# Altium schematic symbol library SamacSys.SchLib: 51 symbols
Pins are listed as number, name and electrical type; pins without a type are passive.

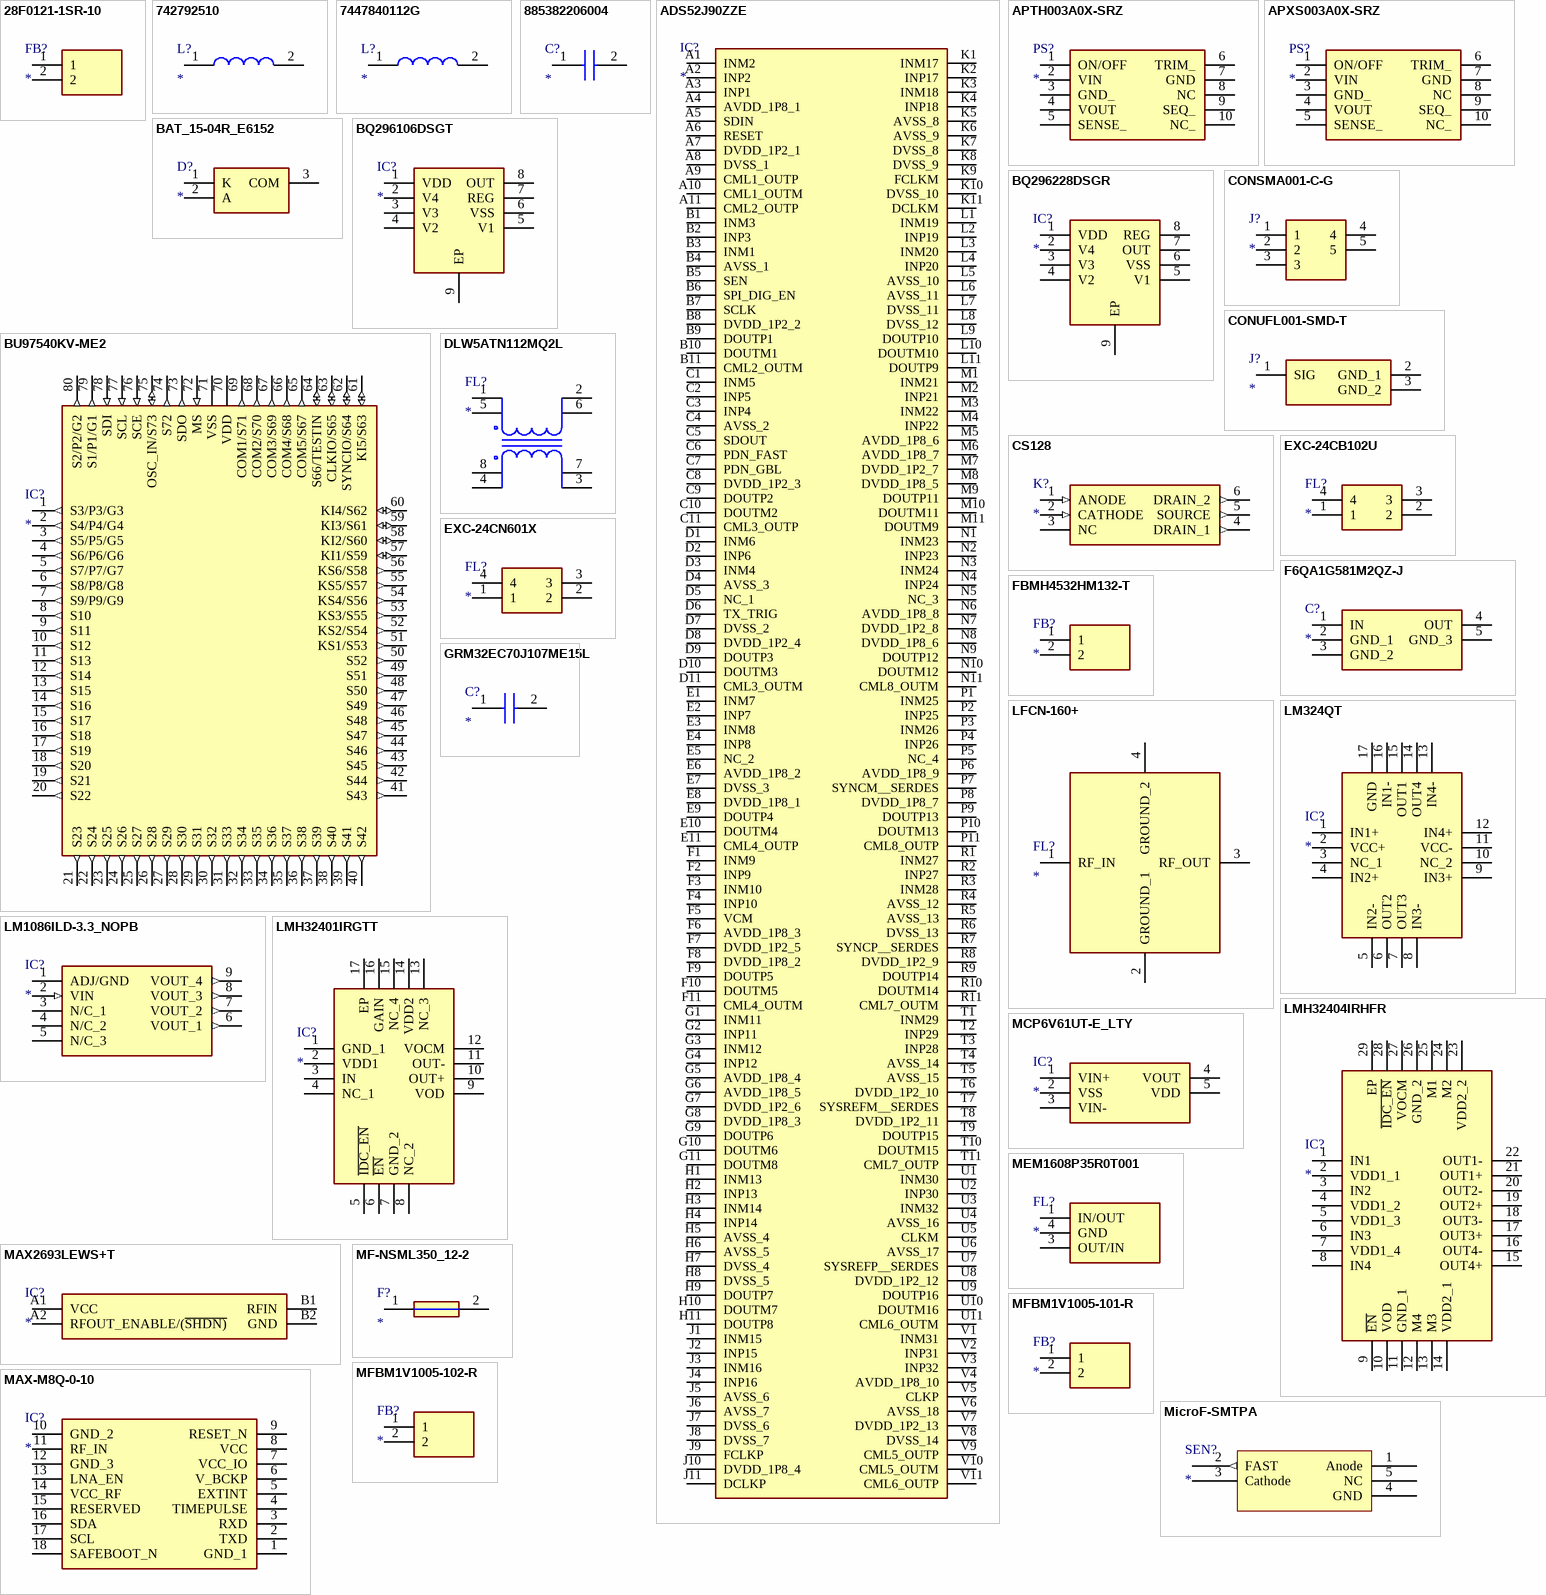
[diagram p0: symbols 28F0121-1SR-10 to MicroF-SMTPA]

## 28F0121-1SR-10
designator FB?
Ferrite Bead; Manufacturer_Name: Laird Performance Materials; Manufacturer_Part_Number: 28F0121-1SR-10; Datasheet Link: https://componentsearchengine.com//28F0121-1SR-10.pdf; Height: 3.05mm; Mouser2 Part Number: 875-28F0121-1SR-10; Mouser2 Price/Stock: https://www.mouser.com/Search/Refine.aspx?Keyword=875-28F0121-1SR-10
footprint 28F01211SR10
pins: 1, 2

## 742792510
designator L?
Inductor; Manufacturer_Name: Wurth Elektronik; Manufacturer_Part_Number: 742792510; Datasheet Link: https://componentsearchengine.com//742792510.pdf; Mouser2 Part Number: 710-742792510; Mouser2 Price/Stock: https://www.mouser.com/Search/Refine.aspx?Keyword=710-742792510
footprint 18122
pins: 1, 2

## 7447840112G
designator L?
Inductor; Manufacturer_Name: Wurth Elektronik; Manufacturer_Part_Number: 7447840112G; Datasheet Link: https://www.mouser.sg/datasheet/2/445/7447840112G-2492224.pdf; Height: 0.55mm
footprint INDC1005X55N
pins: 1, 2

## 885382206004
designator C?
Capacitor; Manufacturer_Name: Wurth Elektronik; Manufacturer_Part_Number: 885382206004; Datasheet Link: https://katalog.we-online.com/pbs/datasheet/885382206004.pdf; Height: 0.87mm
footprint CAPC1608X87N
pins: 1, 2

## ADS52J90ZZE
designator IC?
Integrated Circuit; Manufacturer_Name: Texas Instruments; Manufacturer_Part_Number: ADS52J90ZZE; Datasheet Link: http://www.ti.com/lit/gpn/ads52j90; Height: 1.4mm; Mouser2 Part Number: 595-ADS52J90ZZE; Mouser2 Price/Stock: https://www.mouser.com/Search/Refine.aspx?Keyword=595-ADS52J90ZZE
footprint BGA198C80P11X18_900X1500X140
pins: A1 INM2, A2 INP2, A3 INP1, A4 AVDD_1P8_1, A5 SDIN, A6 RESET, A7 DVDD_1P2_1, A8 DVSS_1, A9 CML1_OUTP, A10 CML1_OUTM, A11 CML2_OUTP, B1 INM3, B2 INP3, B3 INM1, B4 AVSS_1, B5 SEN, B6 SPI_DIG_EN, B7 SCLK, B8 DVDD_1P2_2, B9 DOUTP1, B10 DOUTM1, B11 CML2_OUTM, C1 INM5, C2 INP5, C3 INP4, C4 AVSS_2, C5 SDOUT, C6 PDN_FAST, C7 PDN_GBL, C8 DVDD_1P2_3, C9 DOUTP2, C10 DOUTM2, C11 CML3_OUTP, D1 INM6, D2 INP6, D3 INM4, D4 AVSS_3, D5 NC_1, D6 TX_TRIG, D7 DVSS_2, D8 DVDD_1P2_4, D9 DOUTP3, D10 DOUTM3, D11 CML3_OUTM, E1 INM7, E2 INP7, E3 INM8, E4 INP8, E5 NC_2, E6 AVDD_1P8_2, E7 DVSS_3, E8 DVDD_1P8_1, E9 DOUTP4, E10 DOUTM4, E11 CML4_OUTP, F1 INM9, F2 INP9, F3 INM10, F4 INP10, F5 VCM, F6 AVDD_1P8_3, F7 DVDD_1P2_5, F8 DVDD_1P8_2, F9 DOUTP5, F10 DOUTM5, F11 CML4_OUTM, G1 INM11, G2 INP11, G3 INM12, G4 INP12, G5 AVDD_1P8_4, G6 AVDD_1P8_5, G7 DVDD_1P2_6, G8 DVDD_1P8_3, G9 DOUTP6, G10 DOUTM6, G11 DOUTM8, H1 INM13, H2 INP13, H3 INM14, H4 INP14, H5 AVSS_4, H6 AVSS_5, H7 DVSS_4, H8 DVSS_5, H9 DOUTP7, H10 DOUTM7, H11 DOUTP8, J1 INM15, J2 INP15, J3 INM16, J4 INP16, J5 AVSS_6, J6 AVSS_7, J7 DVSS_6, J8 DVSS_7, J9 FCLKP, J10 DVDD_1P8_4, J11 DCLKP, K1 INM17, K2 INP17, K3 INM18, K4 INP18, K5 AVSS_8, K6 AVSS_9, K7 DVSS_8, K8 DVSS_9, K9 FCLKM, K10 DVSS_10, K11 DCLKM, L1 INM19, L2 INP19, L3 INM20, L4 INP20, L5 AVSS_10, L6 AVSS_11, L7 DVSS_11, L8 DVSS_12, L9 DOUTP10, L10 DOUTM10, L11 DOUTP9, M1 INM21, M2 INP21, M3 INM22, M4 INP22, M5 AVDD_1P8_6, M6 AVDD_1P8_7, M7 DVDD_1P2_7, M8 DVDD_1P8_5, M9 DOUTP11, M10 DOUTM11, M11 DOUTM9, N1 INM23, N2 INP23, N3 INM24, N4 INP24, N5 NC_3, N6 AVDD_1P8_8, N7 DVDD_1P2_8, N8 DVDD_1P8_6, N9 DOUTP12, N10 DOUTM12, N11 CML8_OUTM, P1 INM25, P2 INP25, P3 INM26, P4 INP26, P5 NC_4, P6 AVDD_1P8_9, P7 SYNCM__SERDES, P8 DVDD_1P8_7, P9 DOUTP13, P10 DOUTM13, P11 CML8_OUTP, R1 INM27, R2 INP27, R3 INM28, R4 AVSS_12, R5 AVSS_13, R6 DVSS_13, R7 SYNCP__SERDES, R8 DVDD_1P2_9, R9 DOUTP14, R10 DOUTM14, R11 CML7_OUTM, T1 INM29, T2 INP29, T3 INP28, T4 AVSS_14, T5 AVSS_15, T6 DVDD_1P2_10, T7 SYSREFM__SERDES, T8 DVDD_1P2_11, T9 DOUTP15, T10 DOUTM15, T11 CML7_OUTP, U1 INM30, U2 INP30, U3 INM32, U4 AVSS_16, U5 CLKM, U6 AVSS_17, U7 SYSREFP__SERDES, U8 DVDD_1P2_12, U9 DOUTP16, U10 DOUTM16, U11 CML6_OUTM, V1 INM31, V2 INP31, V3 INP32, V4 AVDD_1P8_10, V5 CLKP, V6 AVSS_18, V7 DVDD_1P2_13, V8 DVSS_14, V9 CML5_OUTP, V10 CML5_OUTM, V11 CML6_OUTP

## APTH003A0X-SRZ
designator PS?
Power Supply; Manufacturer_Name: ABB; Manufacturer_Part_Number: APTH003A0X-SRZ; Description: Non-Isolated DC/DC Converters SMT in 2.4-5.5Vdc out 0.59-3.63Vdc 3A; Datasheet Link: https://componentsearchengine.com/Datasheets/1/APTH003A0X-SRZ.pdf; Height: 6.4024mm
footprint APTH003A0XSRZ
pins: 1 ON/OFF, 2 VIN, 3 GND_, 4 VOUT, 5 SENSE_, 6 TRIM_, 7 GND, 8 NC, 9 SEQ_, 10 NC_

## APXS003A0X-SRZ
designator PS?
Power Supply; Manufacturer_Name: ABB; Manufacturer_Part_Number: APXS003A0X-SRZ; Description: Non-Isolated DC/DC Converters SMT in 4.5-14Vdc out 0.59-5.5Vdc 3A; Datasheet Link: https://www.mouser.sg/datasheet/2/167/APTS003A0X-1920083.pdf; Height: 6.25mm
footprint APTH003A0XSRZ
pins: 1 ON/OFF, 2 VIN, 3 GND_, 4 VOUT, 5 SENSE_, 6 TRIM_, 7 GND, 8 NC, 9 SEQ_, 10 NC_

## BAT_15-04R_E6152
designator D?
Diode; Manufacturer_Name: Infineon; Manufacturer_Part_Number: BAT 15-04R E6152; Datasheet Link: https://www.mouser.co.uk/datasheet/2/196/Infineon_BAT15_04R_DataSheet_v02_01_EN-1840641.pdf; Height: 1.1mm
footprint SOT95P240X110-3N
pins: 1 K, 2 A, 3 COM

## BQ296106DSGT
designator IC?
Integrated Circuit; Manufacturer_Name: Texas Instruments; Manufacturer_Part_Number: BQ296106DSGT; Description: TEXAS INSTRUMENTS - BQ296106DSGT - Battery Li-Ion Overvoltage Protection IC; Datasheet Link: https://www.ti.com/lit/ds/symlink/bq2961.pdf?ts=1629467003310&ref_url=https%253A%252F%252Fwww.ti.com%252Fstore%252Fti%252Fen%252Fp%252Fproduct%252F%253Fp%253DBQ296106DSGT; Height: 0.8mm
footprint SON50P200X200X80-9N
pins: 1 VDD, 2 V4, 3 V3, 4 V2, 5 V1, 6 VSS, 7 REG, 8 OUT, 9 EP

## BQ296228DSGR
designator IC?
Integrated Circuit; Manufacturer_Name: Texas Instruments; Manufacturer_Part_Number: BQ296228DSGR; Description: Battery Management Overvoltage Protection for 2-Series; Datasheet Link: https://www.ti.com/general/docs/suppproductinfo.tsp?distId=10&gotoUrl=https%3A%2F%2Fwww.ti.com%2Flit%2Fgpn%2Fbq2962; Height: 0.8mm; Mouser2 Part Number: 595-BQ296228DSGR; Mouser2 Price/Stock: https://www.mouser.com/Search/Refine.aspx?Keyword=595-BQ296228DSGR
footprint SON50P200X200X80-9N
pins: 1 VDD, 2 V4, 3 V3, 4 V2, 5 V1, 6 VSS, 7 OUT, 8 REG, 9 EP

## BU97540KV-ME2
designator IC?
Integrated Circuit; Manufacturer_Name: ROHM Semiconductor; Manufacturer_Part_Number: BU97540KV-ME2; Datasheet Link: https://componentsearchengine.com//BU97540KV-ME2.pdf; Height: 1.6mm
footprint QFP50P1400X1400X160-80N
pins: 1 S3/P3/G3 (out), 2 S4/P4/G4 (out), 3 S5/P5/G5 (out), 4 S6/P6/G6 (out), 5 S7/P7/G7 (out), 6 S8/P8/G8 (out), 7 S9/P9/G9 (out), 8 S10 (out), 9 S11 (out), 10 S12 (out), 11 S13 (out), 12 S14 (out), 13 S15 (out), 14 S16 (out), 15 S17 (out), 16 S18 (out), 17 S19 (out), 18 S20 (out), 19 S21 (out), 20 S22 (out), 21 S23 (out), 22 S24 (out), 23 S25 (out), 24 S26 (out), 25 S27 (out), 26 S28 (out), 27 S29 (out), 28 S30 (out), 29 S31 (out), 30 S32 (out), 31 S33 (out), 32 S34 (out), 33 S35 (out), 34 S36 (out), 35 S37 (out), 36 S38 (out), 37 S39 (out), 38 S40 (out), 39 S41 (out), 40 S42 (out), 41 S43 (out), 42 S44 (out), 43 S45 (out), 44 S46 (out), 45 S47 (out), 46 S48 (out), 47 S49 (out), 48 S50 (out), 49 S51 (out), 50 S52 (out), 51 KS1/S53 (out), 52 KS2/S54 (out), 53 KS3/S55 (out), 54 KS4/S56 (out), 55 KS5/S57 (out), 56 KS6/S58 (out), 57 KI1/S59 (io), 58 KI2/S60 (io), 59 KI3/S61 (io), 60 KI4/S62 (io), 61 KI5/S63 (io), 62 SYNCIO/S64 (io), 63 CLKIO/S65 (io), 64 S66/TESTIN (io), 65 COM5/S67 (out), 66 COM4/S68 (out), 67 COM3/S69 (out), 68 COM2/S70 (out), 69 COM1/S71 (out), 70 VDD (power), 71 VSS (power), 72 MS (in), 73 SDO (out), 74 S72 (out), 75 OSC_IN/S73 (io), 76 SCE (in), 77 SCL (in), 78 SDI (in), 79 S1/P1/G1 (out), 80 S2/P2/G2 (out)

## CONSMA001-C-G
designator J?
Connector; Manufacturer_Name: Linx Technologies; Manufacturer_Part_Number: CONSMA001-C-G; Height: 10.1mm
footprint CONSMA001CG
pins: 1, 2, 3, 4, 5

## CONUFL001-SMD-T
designator J?
Connector; Manufacturer_Name: Linx Technologies; Manufacturer_Part_Number: CONUFL001-SMD-T; Datasheet Link: https://componentsearchengine.com//CONUFL001-SMD-T.pdf; Mouser2 Part Number: 712-CONUFL001-SMD-T; Mouser2 Price/Stock: https://www.mouser.com/Search/Refine.aspx?Keyword=712-CONUFL001-SMD-T
footprint CONUFL001-SMD
pins: 1 SIG, 2 GND_1, 3 GND_2

## CS128
designator K?
Relay or Contactor; Manufacturer_Name: Coto Technology; Manufacturer_Part_Number: CS128; Datasheet Link: https://componentsearchengine.com/Datasheets/1/CS128.pdf; Height: 3.9mm
footprint SOP254P1030X390-6N
pins: 1 ANODE (in), 2 CATHODE (in), 3 NC, 4 DRAIN_1 (out), 5 SOURCE (out), 6 DRAIN_2 (out)

## DLW5ATN112MQ2L
designator FL?
Filter; Manufacturer_Name: Murata Electronics; Manufacturer_Part_Number: DLW5ATN112MQ2L; Datasheet Link: https://componentsearchengine.com//DLW5ATN112MQ2L.pdf; Height: 2.35mm; Mouser2 Part Number: 81-DLW5ATN112MQ2L; Mouser2 Price/Stock: https://www.mouser.com/Search/Refine.aspx?Keyword=81-DLW5ATN112MQ2L
footprint DLW5BSN302SQ2L
pins: 1, 2, 3, 4, 5, 6, 7, 8

## EXC-24CB102U
designator FL?
Filter; Manufacturer_Name: Panasonic; Manufacturer_Part_Number: EXC-24CN601X; Datasheet Link: https://industrial.panasonic.com/cdbs/www-data/pdf/AWE0000/AWE0000C303.pdf; Height: 0.6mm; Mouser2 Part Number: 667-EXC-24CB102U
footprint EXC24CN601X
pins: 1, 2, 3, 4

## EXC-24CN601X
designator FL?
Filter; Manufacturer_Name: Panasonic; Manufacturer_Part_Number: EXC-24CN601X; Datasheet Link: https://industrial.panasonic.com/cdbs/www-data/pdf/AWE0000/AWE0000C303.pdf; Height: 0.6mm
footprint EXC24CN601X
pins: 1, 2, 3, 4

## F6QA1G581M2QZ-J
designator C?
Capacitor; Manufacturer_Name: TAIYO YUDEN; Manufacturer_Part_Number: F6QA1G581M2QZ-J; Datasheet Link: https://componentsearchengine.com/Datasheets/2/F6QA1G581M2QZ-J.pdf; Height: 0.5mm
footprint F6QA1G581M2QZJ
pins: 1 IN, 2 GND_1, 3 GND_2, 4 OUT, 5 GND_3

## FBMH4532HM132-T
designator FB?
Ferrite Bead; Manufacturer_Name: TAIYO YUDEN; Manufacturer_Part_Number: FBMH4532HM132-T; Datasheet Link: https://componentsearchengine.com//FBMH4532HM132-T.pdf; Height: 3.5mm; Mouser2 Part Number: 963-FBMH4532HM132-T; Mouser2 Price/Stock: https://www.mouser.com/Search/Refine.aspx?Keyword=963-FBMH4532HM132-T
footprint BEADC4532X350N
pins: 1, 2

## GRM32EC70J107ME15L
designator C?
Capacitor; Manufacturer_Name: Murata Electronics; Manufacturer_Part_Number: GRM32EC70J107ME15L; Datasheet Link: https://componentsearchengine.com//GRM32EC70J107ME15L.pdf; Height: 2.7mm; Mouser2 Part Number: 81-GRM32EC70J107ME5L; Mouser2 Price/Stock: https://www.mouser.com/Search/Refine.aspx?Keyword=81-GRM32EC70J107ME5L
footprint CAPC3225X270N
pins: 1, 2

## LFCN-160+
designator FL?
Filter; Manufacturer_Name: Mini-Circuits; Manufacturer_Part_Number: LFCN-160+; Datasheet Link: https://www.minicircuits.com/pdfs/LFCN-160+.pdf; Height: 0.94mm
footprint LFCN160
pins: 1 RF_IN, 2 GROUND_1, 3 RF_OUT, 4 GROUND_2

## LM324QT
designator IC?
Integrated Circuit; Manufacturer_Name: STMicroelectronics; Manufacturer_Part_Number: LM324QT; Datasheet Link: https://www.st.com/resource/en/datasheet/lm324.pdf; Height: 1mm
footprint QFN50P300X300X100-17N
pins: 1 IN1+, 2 VCC+, 3 NC_1, 4 IN2+, 5 IN2-, 6 OUT2, 7 OUT3, 8 IN3-, 9 IN3+, 10 NC_2, 11 VCC-, 12 IN4+, 13 IN4-, 14 OUT4, 15 OUT1, 16 IN1-, 17 GND

## LM1086ILD-3.3_NOPB
designator IC?
Integrated Circuit; Manufacturer_Name: Texas Instruments; Manufacturer_Part_Number: LM1086ILD-3.3/NOPB; Datasheet Link: http://www.ti.com/lit/ds/symlink/lm1086.pdf; Height: 0.8mm
footprint PSON80P400X400X80-9N
pins: 1 ADJ/GND (power), 2 VIN (in), 3 N/C_1, 4 N/C_2, 5 N/C_3, 6 VOUT_1 (out), 7 VOUT_2 (out), 8 VOUT_3 (out), 9 VOUT_4 (out)

## LMH32401IRGTT
designator IC?
Integrated Circuit; Manufacturer_Name: Texas Instruments; Manufacturer_Part_Number: LMH32401IRGTT; Height: 1mm
footprint QFN50P300X300X100-17N-D
pins: 1 GND_1, 2 VDD1, 3 IN, 4 NC_1, 5 ~{IDC_EN}, 6 ~{EN}, 7 GND_2, 8 NC_2, 9 VOD, 10 OUT+, 11 OUT-, 12 VOCM, 13 NC_3, 14 VDD2, 15 NC_4, 16 GAIN, 17 EP

## LMH32404IRHFR
designator IC?
Integrated Circuit; Manufacturer_Name: Texas Instruments; Manufacturer_Part_Number: LMH32404IRHFR; Datasheet Link: https://www.ti.com/lit/ds/symlink/lmh32404.pdf?ts=1637480673112&ref_url=https%253A%252F%252Fwww.ti.com%252Fstore%252Fti%252Fen%252Fp%252Fproduct%252F%253Fp%253DLMH32404IRHFR; Height: 1mm
footprint QFN50P400X500X100-29N-D
pins: 1 IN1, 2 VDD1_1, 3 IN2, 4 VDD1_2, 5 VDD1_3, 6 IN3, 7 VDD1_4, 8 IN4, 9 ~{EN}, 10 VOD, 11 GND_1, 12 M4, 13 M3, 14 VDD2_1, 15 OUT4+, 16 OUT4-, 17 OUT3+, 18 OUT3-, 19 OUT2+, 20 OUT2-, 21 OUT1+, 22 OUT1-, 23 VDD2_2, 24 M2, 25 M1, 26 GND_2, 27 VOCM, 28 ~{IDC_EN}, 29 EP

## MAX2693LEWS+T
designator IC?
Integrated Circuit; Manufacturer_Name: Maxim Integrated; Manufacturer_Part_Number: MAX2693LEWS+T; Datasheet Link: https://pdfserv.maximintegrated.com/en/ds/MAX2686L-MAX2693L.pdf; Height: 0.69mm
footprint BGA4C40P2X2_84X84X69
pins: A1 VCC, A2 RFOUT_ENABLE/(~{SHDN)}, B1 RFIN, B2 GND

## MAX-M8Q-0-10
designator IC?
Integrated Circuit; Manufacturer_Name: U-Blox; Manufacturer_Part_Number: MAX-M8Q-0-10; Datasheet Link: https://www.u-blox.com/sites/default/files/MAX-M8-FW3_DataSheet_%28UBX-15031506%29.pdf
footprint MAX-M8
pins: 1 GND_1, 2 TXD, 3 RXD, 4 TIMEPULSE, 5 EXTINT, 6 V_BCKP, 7 VCC_IO, 8 VCC, 9 RESET_N, 10 GND_2, 11 RF_IN, 12 GND_3, 13 LNA_EN, 14 VCC_RF, 15 RESERVED, 16 SDA, 17 SCL, 18 SAFEBOOT_N

## MCP6V61UT-E_LTY
designator IC?
Integrated Circuit; Manufacturer_Name: Microchip; Manufacturer_Part_Number: MCP6V61UT-E/LTY; Datasheet Link: https://componentsearchengine.com//MCP6V61UT-E_LTY.pdf; Height: 1.1mm; Mouser2 Part Number: 579-MCP6V61UT-E/LTY; Mouser2 Price/Stock: https://www.mouser.com/Search/Refine.aspx?Keyword=579-MCP6V61UT-E%2FLTY
footprint SOT65P210X110-5N
pins: 1 VIN+, 2 VSS, 3 VIN-, 4 VOUT, 5 VDD

## MEM1608P35R0T001
designator FL?
Filter; Manufacturer_Name: TDK; Manufacturer_Part_Number: MEM1608P35R0T001; Datasheet Link: https://product.tdk.com/system/files/dam/doc/product/emc/emc/3tf/catalog/3tf_commercial_signal_mem1608p_en.pdf; Height: 0.7mm
footprint MEM1608P35R0T001
pins: 1 IN/OUT, 3 OUT/IN, 4 GND

## MF-NSML350_12-2
designator F?
Fuse; Manufacturer_Name: Bourns; Manufacturer_Part_Number: MF-NSML350/12-2; Description: Resettable Fuses - PPTC 3.5A 12V 1206 LOW-OHMIC; Datasheet Link: https://componentsearchengine.com/Datasheets/1/MF-NSML350_12-2.pdf; Height: 1.4mm
footprint FUSC3216X140N
pins: 1, 2

## MFBM1V1005-101-R
designator FB?
Ferrite Bead; Manufacturer_Name: Eaton; Manufacturer_Part_Number: MFBM1V1005-101-R; Datasheet Link: https://www.mouser.in/datasheet/2/87/eaton_mfbm1v1005_high_current_multilayer_ferrite_c-1890673.pdf; Height: 0.65mm
footprint BEADC1005X65N
pins: 1, 2

## MFBM1V1005-102-R
designator FB?
Ferrite Bead; Manufacturer_Name: Eaton; Manufacturer_Part_Number: MFBM1V1005-101-R; Datasheet Link: https://www.mouser.in/datasheet/2/87/eaton_mfbm1v1005_high_current_multilayer_ferrite_c-1890673.pdf; Height: 0.65mm
footprint BEADC1005X65N
pins: 1, 2

## MicroF-SMTPA
designator SEN?
footprint MicroFC-SMTPA
pins: 1 Anode, 2 FAST (out), 3 Cathode, 4 GND (power), 5 NC

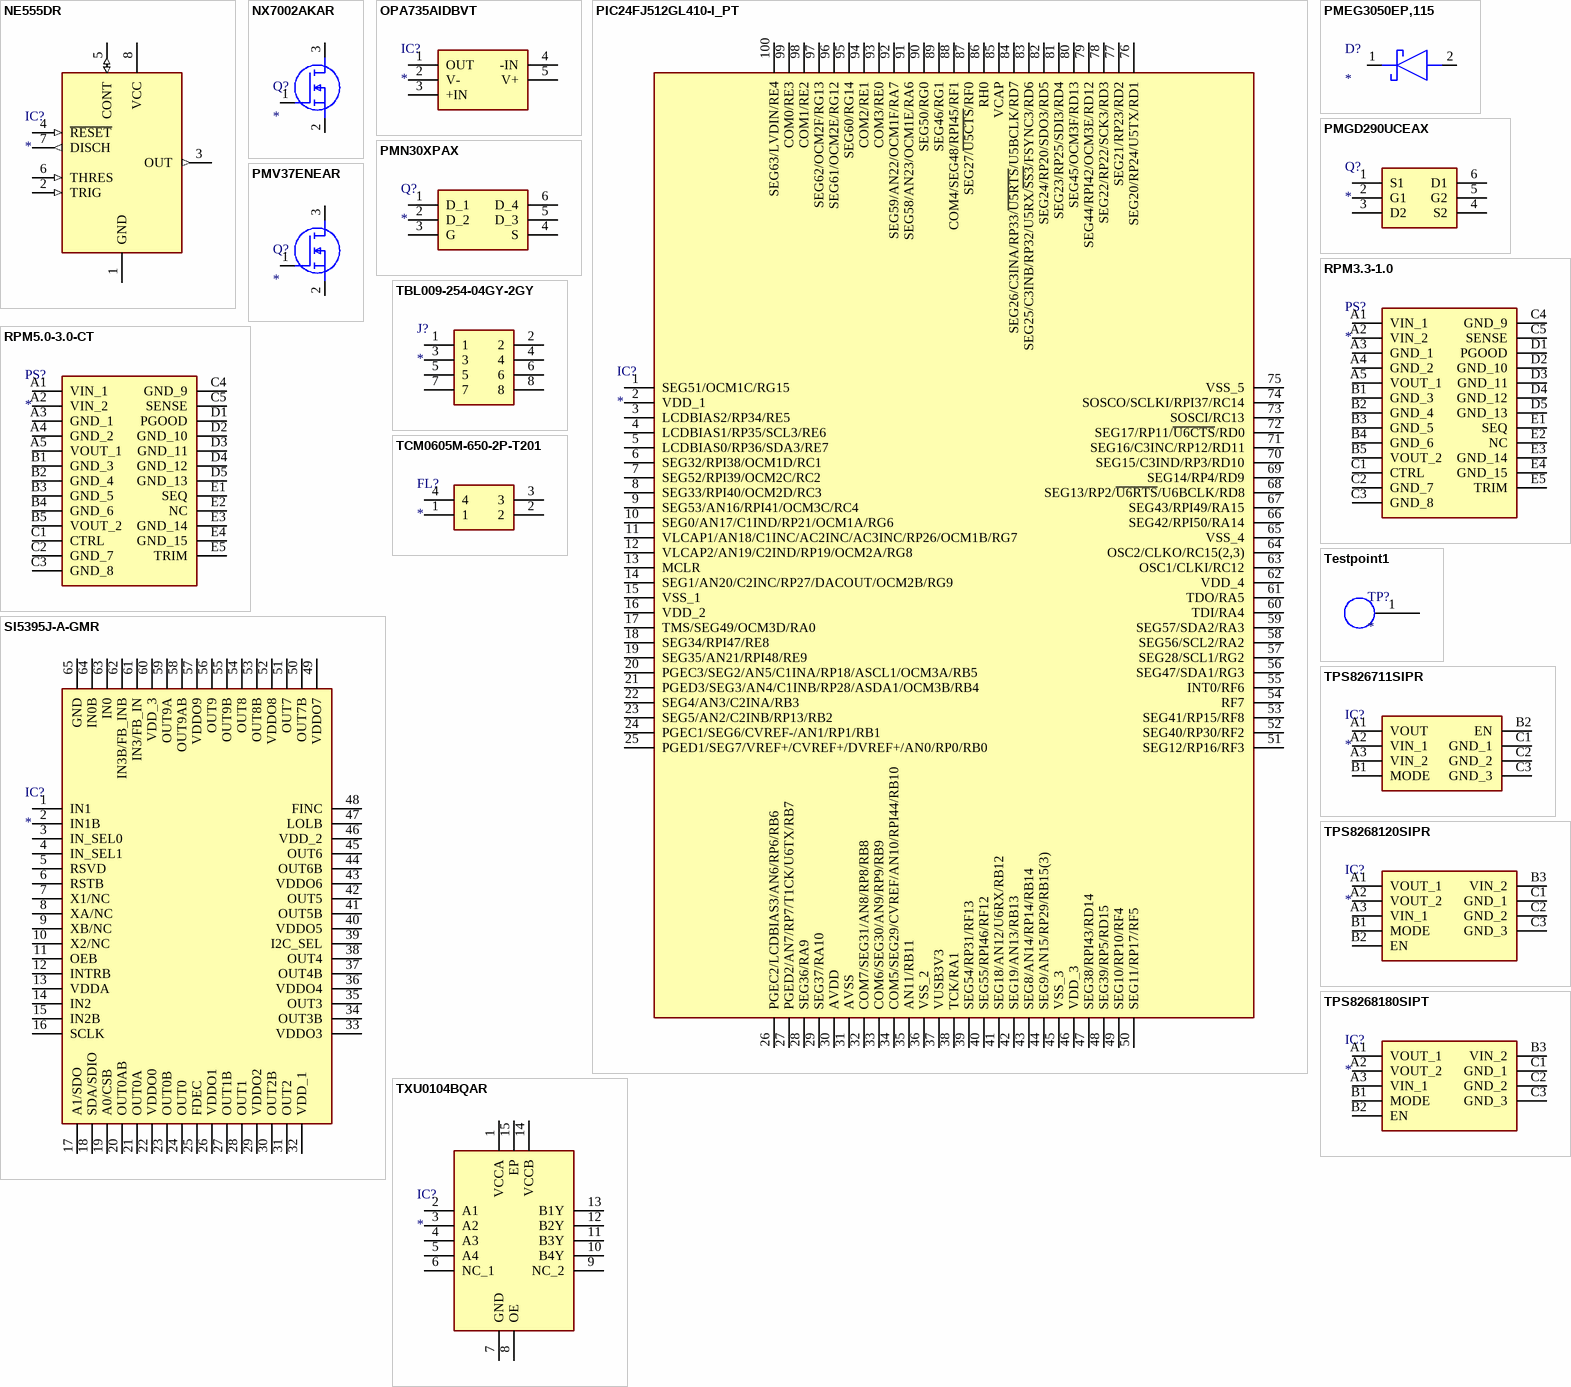
[diagram p1: symbols NE555DR to TXU0104BQAR]

## NE555DR
designator IC?
Integrated Circuit; Manufacturer_Name: Texas Instruments; Manufacturer_Part_Number: NE555DR; Datasheet Link: http://www.ti.com/lit/ds/symlink/ne555.pdf; Height: 1.75mm; Mouser Part Number: 595-NE555DR; Mouser Price/Stock: https://www.mouser.com/Search/Refine.aspx?Keyword=595-NE555DR; RS Part Number: 1218414; RS Price/Stock: http://uk.rs-online.com/web/p/products/1218414
footprint SOIC127P600X175-8N
pins: 1 GND (power), 2 TRIG (in), 3 OUT (out), 4 ~{RESET} (in), 5 CONT (io), 6 THRES (in), 7 DISCH (out), 8 VCC (power)

## NX7002AKAR
designator Q?
MOSFET (N-Channel); Manufacturer_Name: Nexperia; Manufacturer_Part_Number: NX7002AKAR; Description: NEXPERIA - NX7002AKAR - Power MOSFET; Datasheet Link: https://ms.componentsearchengine.com/Datasheets/2/NX7002AKAR.pdf; Height: 1.1mm
footprint SOT95P230X110-3N
pins: 1 G, 2 S, 3 D

## OPA735AIDBVT
designator IC?
Integrated Circuit; Manufacturer_Name: Texas Instruments; Manufacturer_Part_Number: OPA735AIDBVT; Datasheet Link: http://www.ti.com/lit/gpn/opa735; Height: 1.45mm; Mouser2 Part Number: 595-OPA735AIDBVT; Mouser2 Price/Stock: https://www.mouser.com/Search/Refine.aspx?Keyword=595-OPA735AIDBVT
footprint SOT95P280X145-5N
pins: 1 OUT, 2 V-, 3 +IN, 4 -IN, 5 V+

## PIC24FJ512GL410-I_PT
designator IC?
Integrated Circuit; Manufacturer_Name: Microchip; Manufacturer_Part_Number: PIC24FJ512GL410-I/PT; Datasheet Link: https://www.mouser.in/datasheet/2/268/microchiptechnology_mchp_s_a0010602690_1-1991324.pdf; Height: 1.2mm
footprint QFP40P1400X1400X120-100N
pins: 1 SEG51/OCM1C/RG15, 2 VDD_1, 3 LCDBIAS2/RP34/RE5, 4 LCDBIAS1/RP35/SCL3/RE6, 5 LCDBIAS0/RP36/SDA3/RE7, 6 SEG32/RPI38/OCM1D/RC1, 7 SEG52/RPI39/OCM2C/RC2, 8 SEG33/RPI40/OCM2D/RC3, 9 SEG53/AN16/RPI41/OCM3C/RC4, 10 SEG0/AN17/C1IND/RP21/OCM1A/RG6, 11 VLCAP1/AN18/C1INC/AC2INC/AC3INC/RP26/OCM1B/RG7, 12 VLCAP2/AN19/C2IND/RP19/OCM2A/RG8, 13 MCLR, 14 SEG1/AN20/C2INC/RP27/DACOUT/OCM2B/RG9, 15 VSS_1, 16 VDD_2, 17 TMS/SEG49/OCM3D/RA0, 18 SEG34/RPI47/RE8, 19 SEG35/AN21/RPI48/RE9, 20 PGEC3/SEG2/AN5/C1INA/RP18/ASCL1/OCM3A/RB5, 21 PGED3/SEG3/AN4/C1INB/RP28/ASDA1/OCM3B/RB4, 22 SEG4/AN3/C2INA/RB3, 23 SEG5/AN2/C2INB/RP13/RB2, 24 PGEC1/SEG6/CVREF-/AN1/RP1/RB1, 25 PGED1/SEG7/VREF+/CVREF+/DVREF+/AN0/RP0/RB0, 26 PGEC2/LCDBIAS3/AN6/RP6/RB6, 27 PGED2/AN7/RP7/T1CK/U6TX/RB7, 28 SEG36/RA9, 29 SEG37/RA10, 30 AVDD, 31 AVSS, 32 COM7/SEG31/AN8/RP8/RB8, 33 COM6/SEG30/AN9/RP9/RB9, 34 COM5/SEG29/CVREF/AN10/RPI44/RB10, 35 AN11/RB11, 36 VSS_2, 37 VUSB3V3, 38 TCK/RA1, 39 SEG54/RP31/RF13, 40 SEG55/RPI46/RF12, 41 SEG18/AN12/U6RX/RB12, 42 SEG19/AN13/RB13, 43 SEG8/AN14/RP14/RB14, 44 SEG9/AN15/RP29/RB15(3), 45 VSS_3, 46 VDD_3, 47 SEG38/RPI43/RD14, 48 SEG39/RP5/RD15, 49 SEG10/RP10/RF4, 50 SEG11/RP17/RF5, 51 SEG12/RP16/RF3, 52 SEG40/RP30/RF2, 53 SEG41/RP15/RF8, 54 RF7, 55 INT0/RF6, 56 SEG47/SDA1/RG3, 57 SEG28/SCL1/RG2, 58 SEG56/SCL2/RA2, 59 SEG57/SDA2/RA3, 60 TDI/RA4, 61 TDO/RA5, 62 VDD_4, 63 OSC1/CLKI/RC12, 64 OSC2/CLKO/RC15(2,3), 65 VSS_4, 66 SEG42/RPI50/RA14, 67 SEG43/RPI49/RA15, 68 SEG13/RP2/~{U6RTS}/U6BCLK/RD8, 69 SEG14/RP4/RD9, 70 SEG15/C3IND/RP3/RD10, 71 SEG16/C3INC/RP12/RD11, 72 SEG17/RP11/~{U6CTS}/RD0, 73 SOSCI/RC13, 74 SOSCO/SCLKI/RPI37/RC14, 75 VSS_5, 76 SEG20/RP24/U5TX/RD1, 77 SEG21/RP23/RD2, 78 SEG22/RP22/SCK3/RD3, 79 SEG44/RPI42/OCM3E/RD12, 80 SEG45/OCM3F/RD13, 81 SEG23/RP25/SDI3/RD4, 82 SEG24/RP20/SDO3/RD5, 83 SEG25/C3INB/RP32/U5RX/~{SS3}/FSYNC3/RD6, 84 SEG26/C3INA/RP33/~{U5RTS}/U5BCLK/RD7, 85 VCAP, 86 RH0, 87 SEG27/~{U5CTS}/RF0, 88 COM4/SEG48/RPI45/RF1, 89 SEG46/RG1, 90 SEG50/RG0, 91 SEG58/AN23/OCM1E/RA6, 92 SEG59/AN22/OCM1F/RA7, 93 COM3/RE0, 94 COM2/RE1, 95 SEG60/RG14, 96 SEG61/OCM2E/RG12, 97 SEG62/OCM2F/RG13, 98 COM1/RE2, 99 COM0/RE3, 100 SEG63/LVDIN/RE4

## PMEG3050EP,115
designator D?
Schottky Diode; Manufacturer_Name: Nexperia; Manufacturer_Part_Number: PMEG3050EP,115; Description: NXP PMEG3050EP,115 SMT Schottky Diode; Datasheet Link: https://datasheet.datasheetarchive.com/originals/distributors/Datasheets_SAMA/fa882cf4aa6eed6383790f96e9182165.pdf; Height: 1mm
footprint PMEG3050EP115
pins: 1 K, 2 A

## PMGD290UCEAX
designator Q?
Transistor; Manufacturer_Name: Nexperia; Manufacturer_Part_Number: PMGD290UCEAX; Description: NEXPERIA - PMGD290UCEAX - Dual MOSFET; Datasheet Link: https://ms.componentsearchengine.com/Datasheets/2/PMGD290UCEAX.pdf; Height: 1.1mm
footprint SOT65P210X110-6N
pins: 1 S1, 2 G1, 3 D2, 4 S2, 5 G2, 6 D1

## PMN30XPAX
designator Q?
MOSFET (P-Channel); Manufacturer_Name: Nexperia; Manufacturer_Part_Number: PMN30XPAX; Description: MOSFET MOS Discretes 20 V; Datasheet Link: https://www.mouser.in/datasheet/2/916/PMN30XPA-1839888.pdf; Height: 1.1mm
footprint SOT95P275X110-6N
pins: 1 D_1, 2 D_2, 3 G, 4 S, 5 D_3, 6 D_4

## PMV37ENEAR
designator Q?
MOSFET (N-Channel); Manufacturer_Name: Nexperia; Manufacturer_Part_Number: PMV37ENEAR; Description: MOSFET 60V N-CHANNEL; Datasheet Link: https://componentsearchengine.com/Datasheets/2/PMV37ENEAR.pdf; Height: 1.1mm
footprint SOT95P230X110-3N
pins: 1 G, 2 S, 3 D

## RPM3.3-1.0
designator PS?
Power Supply; Manufacturer_Name: RECOM Power; Manufacturer_Part_Number: RPM3.3-1.0; Datasheet Link: https://componentsearchengine.com//RPM3.3-1.0.pdf; Height: 4mm; Mouser2 Part Number: 919-RPM3.3-1.0; Mouser2 Price/Stock: https://www.mouser.com/Search/Refine.aspx?Keyword=919-RPM3.3-1.0
footprint RPM3310CT
pins: A1 VIN_1, A2 VIN_2, A3 GND_1, A4 GND_2, A5 VOUT_1, B1 GND_3, B2 GND_4, B3 GND_5, B4 GND_6, B5 VOUT_2, C1 CTRL, C2 GND_7, C3 GND_8, C4 GND_9, C5 SENSE, D1 PGOOD, D2 GND_10, D3 GND_11, D4 GND_12, D5 GND_13, E1 SEQ, E2 NC, E3 GND_14, E4 GND_15, E5 TRIM

## RPM5.0-3.0-CT
designator PS?
Power Supply; Manufacturer_Name: RECOM Power; Manufacturer_Part_Number: RPM5.0-3.0-CT; Datasheet Link: https://componentsearchengine.com/Datasheets/1/RPM5.0-3.0-CT.pdf; Height: 4mm
footprint RPM5030CT
pins: A1 VIN_1, A2 VIN_2, A3 GND_1, A4 GND_2, A5 VOUT_1, B1 GND_3, B2 GND_4, B3 GND_5, B4 GND_6, B5 VOUT_2, C1 CTRL, C2 GND_7, C3 GND_8, C4 GND_9, C5 SENSE, D1 PGOOD, D2 GND_10, D3 GND_11, D4 GND_12, D5 GND_13, E1 SEQ, E2 NC, E3 GND_14, E4 GND_15, E5 TRIM

## SI5395J-A-GMR
designator IC?
Integrated Circuit; Manufacturer_Name: Silicon Labs; Manufacturer_Part_Number: SI5395J-A-GMR; Datasheet Link: https://www.silabs.com/documents/public/data-sheets/si5395-94-92-a-datasheet.pdf; Height: 1.1mm
footprint SI5395JAGMR
pins: 1 IN1, 2 IN1B, 3 IN_SEL0, 4 IN_SEL1, 5 RSVD, 6 RSTB, 7 X1/NC, 8 XA/NC, 9 XB/NC, 10 X2/NC, 11 OEB, 12 INTRB, 13 VDDA, 14 IN2, 15 IN2B, 16 SCLK, 17 A1/SDO, 18 SDA/SDIO, 19 A0/CSB, 20 OUT0AB, 21 OUT0A, 22 VDDO0, 23 OUT0B, 24 OUT0, 25 FDEC, 26 VDDO1, 27 OUT1B, 28 OUT1, 29 VDDO2, 30 OUT2B, 31 OUT2, 32 VDD_1, 33 VDDO3, 34 OUT3B, 35 OUT3, 36 VDDO4, 37 OUT4B, 38 OUT4, 39 I2C_SEL, 40 VDDO5, 41 OUT5B, 42 OUT5, 43 VDDO6, 44 OUT6B, 45 OUT6, 46 VDD_2, 47 LOLB, 48 FINC, 49 VDDO7, 50 OUT7B, 51 OUT7, 52 VDDO8, 53 OUT8B, 54 OUT8, 55 OUT9B, 56 OUT9, 57 VDDO9, 58 OUT9AB, 59 OUT9A, 60 VDD_3, 61 IN3/FB_IN, 62 IN3B/FB_INB, 63 IN0, 64 IN0B, 65 GND

## TBL009-254-04GY-2GY
designator J?
Connector; Manufacturer_Name: CUI Inc.; Manufacturer_Part_Number: TBL009-254-04GY-2GY; Datasheet Link: https://componentsearchengine.com//TBL009-254-04GY-2GY.pdf; Height: 10mm; Mouser2 Part Number: 490-TBL00925404GY2GY; Mouser2 Price/Stock: https://www.mouser.com/Search/Refine.aspx?Keyword=490-TBL00925404GY2GY
footprint TBL00925404GY2GY
pins: 1, 2, 3, 4, 5, 6, 7, 8

## TCM0605M-650-2P-T201
designator FL?
Filter; Manufacturer_Name: TDK; Manufacturer_Part_Number: TCM0605M-650-2P-T201; Datasheet Link: https://product.tdk.com/system/files/dam/doc/product/emc/emc/cmf_cmc/catalog/cmf_commercial_signal_tcm0605m_en.pdf; Height: 0.35mm
footprint TCM0605M
pins: 1, 2, 3, 4

## Testpoint1
designator TP?  (no BOM)
footprint Testpoint1
pins: 1

## TPS826711SIPR
designator IC?
Integrated Circuit; Manufacturer_Name: Texas Instruments; Manufacturer_Part_Number: TPS826711SIPR; Datasheet Link: http://www.ti.com/lit/gpn/tps826711; Height: 1mm
footprint TPS826711SIPR
pins: A1 VOUT, A2 VIN_1, A3 VIN_2, B1 MODE, B2 EN, C1 GND_1, C2 GND_2, C3 GND_3

## TPS8268120SIPR
designator IC?
Integrated Circuit; Manufacturer_Name: Texas Instruments; Manufacturer_Part_Number: TPS8268120SIPR; Datasheet Link: http://www.ti.com/lit/gpn/tps8268120; Height: 1mm
footprint TPS8268120SIPR
pins: A1 VOUT_1, A2 VOUT_2, A3 VIN_1, B1 MODE, B2 EN, B3 VIN_2, C1 GND_1, C2 GND_2, C3 GND_3

## TPS8268180SIPT
designator IC?
Integrated Circuit; Manufacturer_Name: Texas Instruments; Manufacturer_Part_Number: TPS8268180SIPT; Datasheet Link: https://www.ti.com/lit/gpn/tps8268180?HQS=ti-null-null-sf-df-pf-sep-wwe&DCM=yes; Height: 1mm
footprint TPS8268180SIPT
pins: A1 VOUT_1, A2 VOUT_2, A3 VIN_1, B1 MODE, B2 EN, B3 VIN_2, C1 GND_1, C2 GND_2, C3 GND_3

## TXU0104BQAR
designator IC?
Integrated Circuit; Manufacturer_Name: Texas Instruments; Manufacturer_Part_Number: TXU0104BQAR; Datasheet Link: https://www.ti.com/lit/gpn/txu0104; Height: 0.8mm
footprint TXU0104BQAR
pins: 1 VCCA, 2 A1, 3 A2, 4 A3, 5 A4, 6 NC_1, 7 GND, 8 OE, 9 NC_2, 10 B4Y, 11 B3Y, 12 B2Y, 13 B1Y, 14 VCCB, 15 EP